# Altium schematic symbol library MPZ2012S300AT000.SchLib: 1 symbol
Pins are listed as number, name and electrical type; pins without a type are passive.

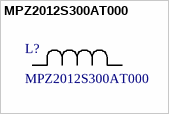
[diagram p0: symbol MPZ2012S300AT000]

## MPZ2012S300AT000
designator L?
Description; Manufacturer_Name: TDK; Copyright: Copyright (C) 2025 Ultra Librarian. All rights reserved.; Manufacturer_Part_Number: MPZ2012S300AT000
footprint IND_2012_TDK
pins: 1, 2